# Altium schematic symbol library 走马灯SCH.SchLib: 12 symbols
Pins are listed as number, name and electrical type; pins without a type are passive.

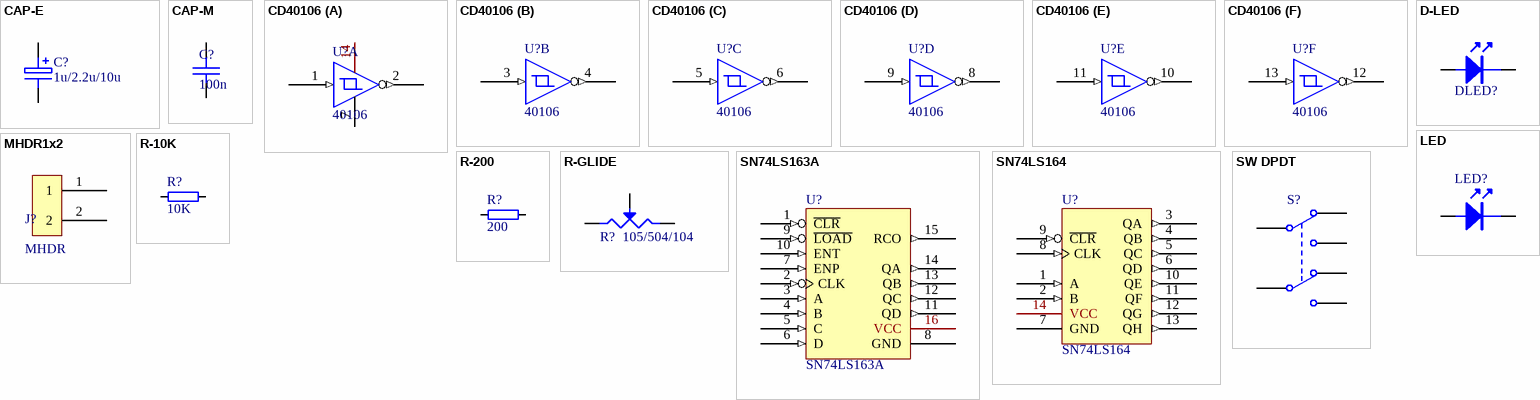
[diagram p0: symbols CAP-E to SW DPDT]

## CAP-E
designator C?, comment 1u/2.2u/10u
电解电容
footprint C5X8 (RB.1/.2)
pins: 1, 2

## CAP-M
designator C?, comment 100n
独石电容
footprint MLCC5.08-A (独石电容，脚距5.08mm)
pins: 1, 2

## CD40106
designator U?, comment 40106
footprint DIP14
part A pins: 1 (in), 2 (out), 7 GND (power) hidden to GND, 7 Vss, 14 VCC (power) hidden to VCC, 14 Vdd
part B pins: 3 (in), 4 (out), 7 GND (power) hidden to GND, 14 VCC (power) hidden to VCC
part C pins: 5 (in), 6 (out), 7 GND (power) hidden to GND, 14 VCC (power) hidden to VCC
part D pins: 7 GND (power) hidden to GND, 8 (out), 9 (in), 14 VCC (power) hidden to VCC
part E pins: 7 GND (power) hidden to GND, 10 (out), 11 (in), 14 VCC (power) hidden to VCC
part F pins: 7 GND (power) hidden to GND, 12 (out), 13 (in), 14 VCC (power) hidden to VCC

## D-LED
designator DLED?  (value not drawn)
LED
footprint LED 5MM-Y (黄色5mm直插LED                       淘宝ID:黄晶宝石)
pins: 1 A, 2 K

## LED
designator LED?  (value not drawn)
footprint LED 5MM-R (红色5mm直插LED  淘宝ID:黄晶宝石)
pins: 1 A, 2 K

## MHDR1x2
designator J?, comment MHDR
MHDR1x2
footprint HDR1X2
pins: 1, 2

## R-10K
designator R?, comment 10K
resistor
footprint RS 1/4W (直插色环电阻，脚距9mm，直径2.3mm)
pins: 1, 2

## R-200
designator R?, comment 200
resistor
footprint RS 1/4W (直插色环电阻，脚距9mm，直径2.3mm)
pins: 1, 2

## R-GLIDE
designator R?, comment 105/504/104
footprint RES ADJ3
pins: 1, 2, 3 W

## SN74LS163A
designator U?
SYN 4-BIT CNT
footprint DIP16
pins: 1 ~{CLR} (in), 2 CLK (in), 3 A (in), 4 B (in), 5 C (in), 6 D (in), 7 ENP (in), 8 GND (power) hidden to GND, 8 GND, 9 ~{LOAD} (in), 10 ENT (in), 11 QD (out), 12 QC (out), 13 QB (out), 14 QA (out), 15 RCO (out), 16 VCC (power) hidden to VCC, 16 VCC
1 alternate drawing of the same symbol

## SN74LS164
designator U?
8-BIT PALL SERI SFT REG
footprint DIP14
pins: 1 A (in), 2 B (in), 3 QA (out), 4 QB (out), 5 QC (out), 6 QD (out), 7 GND (power) hidden to GND, 7 GND, 8 CLK (in), 9 ~{CLR} (in), 10 QE (out), 11 QF (out), 12 QG (out), 13 QH (out), 14 VCC (power) hidden to VCC, 14 VCC
1 alternate drawing of the same symbol

## SW DPDT
designator S?
Switch; Published: 24-Mar-1999; LatestRevisionDate: 17-Jul-2002; LatestRevisionNote: Re-released for DXP Platform.; PackageReference: SOT23-6; Publisher: Altium Limited
footprint KFT DIP-8X8 (自锁开关，规格：8*8mm)
pins: 1 NC1, 2 NO1, 3 COMMON1, 4 NC2, 5 NO2, 6 COMMON2